# Altium schematic symbol library SCH - POWER - SWITCHMODE - TI TPS51116_RGE_24.SchLib: 1 symbol
Pins are listed as number, name and electrical type; pins without a type are passive.

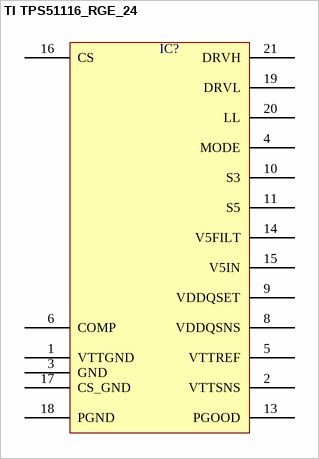
[diagram p0: symbol TI TPS51116_RGE_24]

## TI TPS51116_RGE_24
designator IC?  (value not drawn)
pins: 1 VTTGND, 2 VTTSNS, 3 GND, 4 MODE, 5 VTTREF, 6 COMP, 8 VDDQSNS, 9 VDDQSET, 10 S3, 11 S5, 13 PGOOD, 14 V5FILT, 15 V5IN, 16 CS, 17 CS_GND, 18 PGND, 19 DRVL, 20 LL, 21 DRVH